# Altium schematic symbol library IC Regulators.SchLib: 50 symbols
Pins are listed as number, name and electrical type; pins without a type are passive.

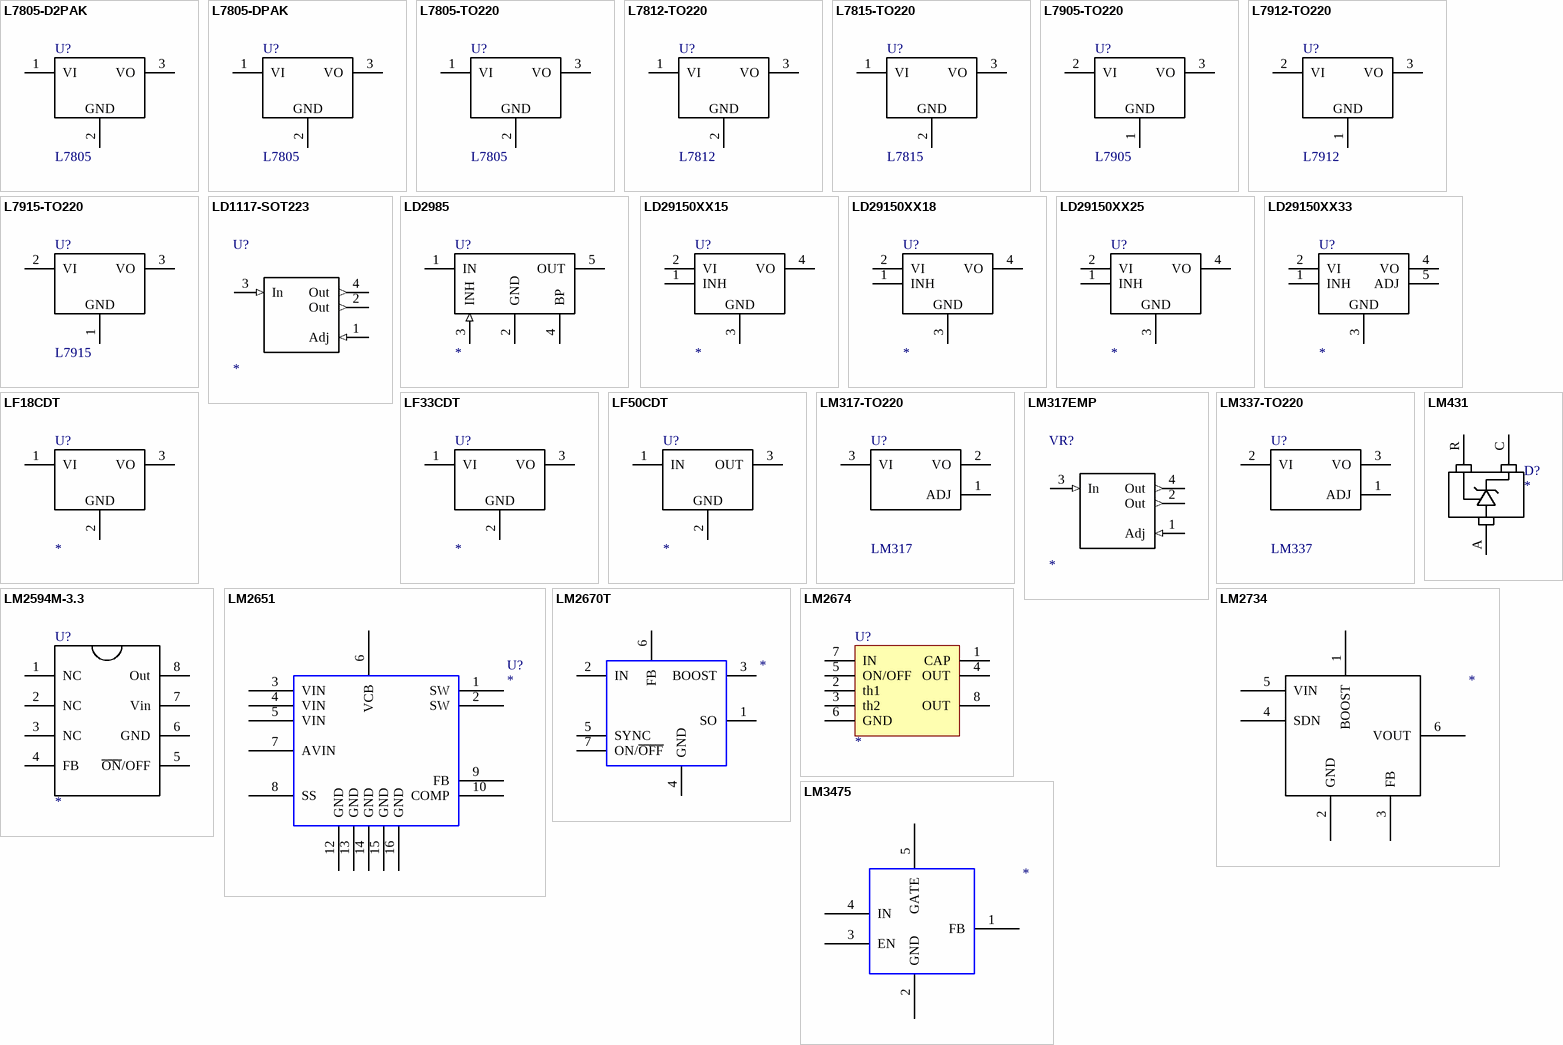
[diagram p0: symbols L7805-D2PAK to LM3475]

## L7805-D2PAK
designator U?, comment L7805
LINEAR REGULATOR 5.0V; Supplier 1: Digi-Key; Supplier Part Number 1: 497-1170-6-ND
footprint D2PAK
pins: 1 VI, 2, 3 VO
text: GND

## L7805-DPAK
designator U?, comment L7805
LINEAR REGULATOR 5.0V; Supplier 1: Digi-Key; Supplier Part Number 1: 497-7255-6-ND
footprint DPAK
pins: 1 VI, 2, 3 VO
text: GND

## L7805-TO220
designator U?, comment L7805
LINEAR REGULATOR 5.0V; Supplier 1: Mouser; Supplier Part Number 1: 511-L7805ACP
footprint to220-123-v (TO220 123 pin numbering Vertical mount)
pins: 1 VI, 2, 3 VO
text: GND

## L7812-TO220
designator U?, comment L7812
LINEAR REGULATOR 12.0V; Supplier 1: Mouser; Supplier 2: Mouser; Supplier Part Number 2: 511-L7812ABV
footprint to220-123-v (TO220 123 pin numbering Vertical mount)
pins: 1 VI, 2, 3 VO
text: GND

## L7815-TO220
designator U?, comment L7815
Low Drop Voltage Regulator 5.0V; Supplier 1: Mouser; Supplier Part Number 1: 511-L7815ABV
footprint to220-123-v (TO220 123 pin numbering Vertical mount)
pins: 1 VI, 2, 3 VO
text: GND

## L7905-TO220
designator U?, comment L7905
LINEAR REGULATOR -5.0V; Supplier 1: Mouser; Supplier Part Number 1: 511-L7905ACV
footprint to220-123-v (TO220 123 pin numbering Vertical mount)
pins: 1, 2 VI, 3 VO
text: GND

## L7912-TO220
designator U?, comment L7912
LINEAR REGULATOR -12.0V; Supplier 1: Mouser; Supplier Part Number 1: 511-L7912ACV
footprint to220-123-v (TO220 123 pin numbering Vertical mount)
pins: 1, 2 VI, 3 VO
text: GND

## L7915-TO220
designator U?, comment L7915
LINEAR REGULATOR -15.0V; Supplier 1: Mouser; Supplier Part Number 1: 511-L7915ACV
footprint to220-123-v (TO220 123 pin numbering Vertical mount)
pins: 1, 2 VI, 3 VO
text: GND

## LD1117-SOT223
designator U?
footprint SOT223
pins: 1 Adj (in), 2 Out (out), 3 In (in), 4 Out (out)

## LD2985
designator U?
Low Noise Low Drop Voltage Regulator  with Inhibit; Text Field1: ST; Text Field2: LK112SM33TR; Text Field3: ST; Text Field4: LK112SM33TR
footprint SOT23-5
pins: 1 IN (power), 2 GND (power), 3 INH (in), 4 BP (power), 5 OUT (power)

## LD29150XX15
designator U?
Low Drop Voltage Regulator 5.0V; Text Field1: ST; Text Field2: LF33CDT; Text Field3: Mouser; Text Field4: 511-LF33CDT; Text Field5: DPAK; Text Field6: 0.57; NI?: *; O?: *; Section:: *
footprint PPAK
pins: 1 INH, 2 VI, 3, 4 VO
text: GND

## LD29150XX18
designator U?
Low Drop Voltage Regulator 5.0V; Text Field1: ST; Text Field2: LF33CDT; Text Field3: Mouser; Text Field4: 511-LF33CDT; Text Field5: DPAK; Text Field6: 0.57; NI?: *; O?: *; Section:: *
footprint PPAK
pins: 1 INH, 2 VI, 3, 4 VO
text: GND

## LD29150XX25
designator U?
Low Drop Voltage Regulator 5.0V; Text Field1: ST; Text Field2: LF33CDT; Text Field3: Mouser; Text Field4: 511-LF33CDT; Text Field5: DPAK; Text Field6: 0.57; NI?: *; O?: *; Section:: *
footprint PPAK
pins: 1 INH, 2 VI, 3, 4 VO
text: GND

## LD29150XX33
designator U?
Low Drop Voltage Regulator 5.0V; Text Field1: ST; Text Field2: LF33CDT; Text Field3: Mouser; Text Field4: 511-LF33CDT; Text Field5: DPAK; Text Field6: 0.57; NI?: *; O?: *; Section:: *
footprint PPAK
pins: 1 INH, 2 VI, 3, 4 VO, 5 ADJ
text: GND

## LF18CDT
designator U?
Low Drop Voltage Regulator 1.8V; Text Field1: ST; Text Field2: LF33CDT; Text Field3: Mouser; Text Field4: 511-LF33CDT; Text Field5: DPAK; Text Field6: 0.57; NI?: *; O?: *; Section:: *
footprint DPAK
pins: 1 VI, 2, 3 VO
text: GND

## LF33CDT
designator U?
Low Drop Voltage Regulator 3.3V; Text Field1: ST; Text Field2: LF33CDT; Text Field3: Mouser; Text Field4: 511-LF33CDT; Text Field5: DPAK; Text Field6: 0.57; NI?: *; O?: *; Section:: *
footprint DPAK
pins: 1 VI, 2, 3 VO
text: GND

## LF50CDT
designator U?
Low Drop Voltage Regulator 5.0V; Text Field1: ST; Text Field2: LF33CDT; Text Field3: Mouser; Text Field4: 511-LF33CDT; Text Field5: DPAK; Text Field6: 0.57; NI?: *; O?: *; Section:: *
footprint DPAK
pins: 1 IN, 2, 3 OUT
text: GND

## LM317-TO220
designator U?, comment LM317
LINEAR REGULATOR ADJ POSITIVE; Supplier 1: Mouser; Supplier Part Number 1: 511-LM317MT
footprint to220-123-v (TO220 123 pin numbering Vertical mount)
pins: 1 ADJ, 2 VO, 3 VI

## LM317EMP
designator VR?
footprint SOT223
pins: 1 Adj (in), 2 Out (out), 3 In (in), 4 Out (out)

## LM337-TO220
designator U?, comment LM337
Low Drop Voltage Regulator 5.0V; Supplier 1: Digi-Key; Supplier Part Number 1: 497-1585-5-ND
footprint to220-123-v (TO220 123 pin numbering Vertical mount)
pins: 1 ADJ, 2 VI, 3 VO

## LM431
designator D?
pins: A, C, R

## LM2594M-3.3
designator U?
footprint SO8
pins: 1 NC, 2 NC, 3 NC, 4 FB, 5 ~{ON}/OFF, 6 GND, 7 Vin, 8 Out

## LM2651
designator U?
SYNCHRONOUS STEP DOWN REGULATOR
footprint TSSOP16
pins: 1 SW, 2 SW, 3 VIN, 4 VIN, 5 VIN, 6 VCB, 7 AVIN, 8 SS, 9 FB, 10 COMP, 12 GND, 13 GND, 14 GND, 15 GND, 16 GND

## LM2670T
designator ?
pins: 1 SO, 2 IN, 3 BOOST, 4 GND, 5 SYNC, 6 FB, 7 ON/~{OFF}

## LM2674
designator U?
footprint DIP8
pins: 1 CAP, 2 th1, 3 th2, 4 OUT, 5 ON/OFF, 6 GND, 7 IN, 8 OUT

## LM2734
designator ?
pins: 1 BOOST, 2 GND, 3 FB, 4 SDN, 5 VIN, 6 VOUT

## LM3475
designator ?
pins: 1 FB, 2 GND, 3 EN, 4 IN, 5 GATE

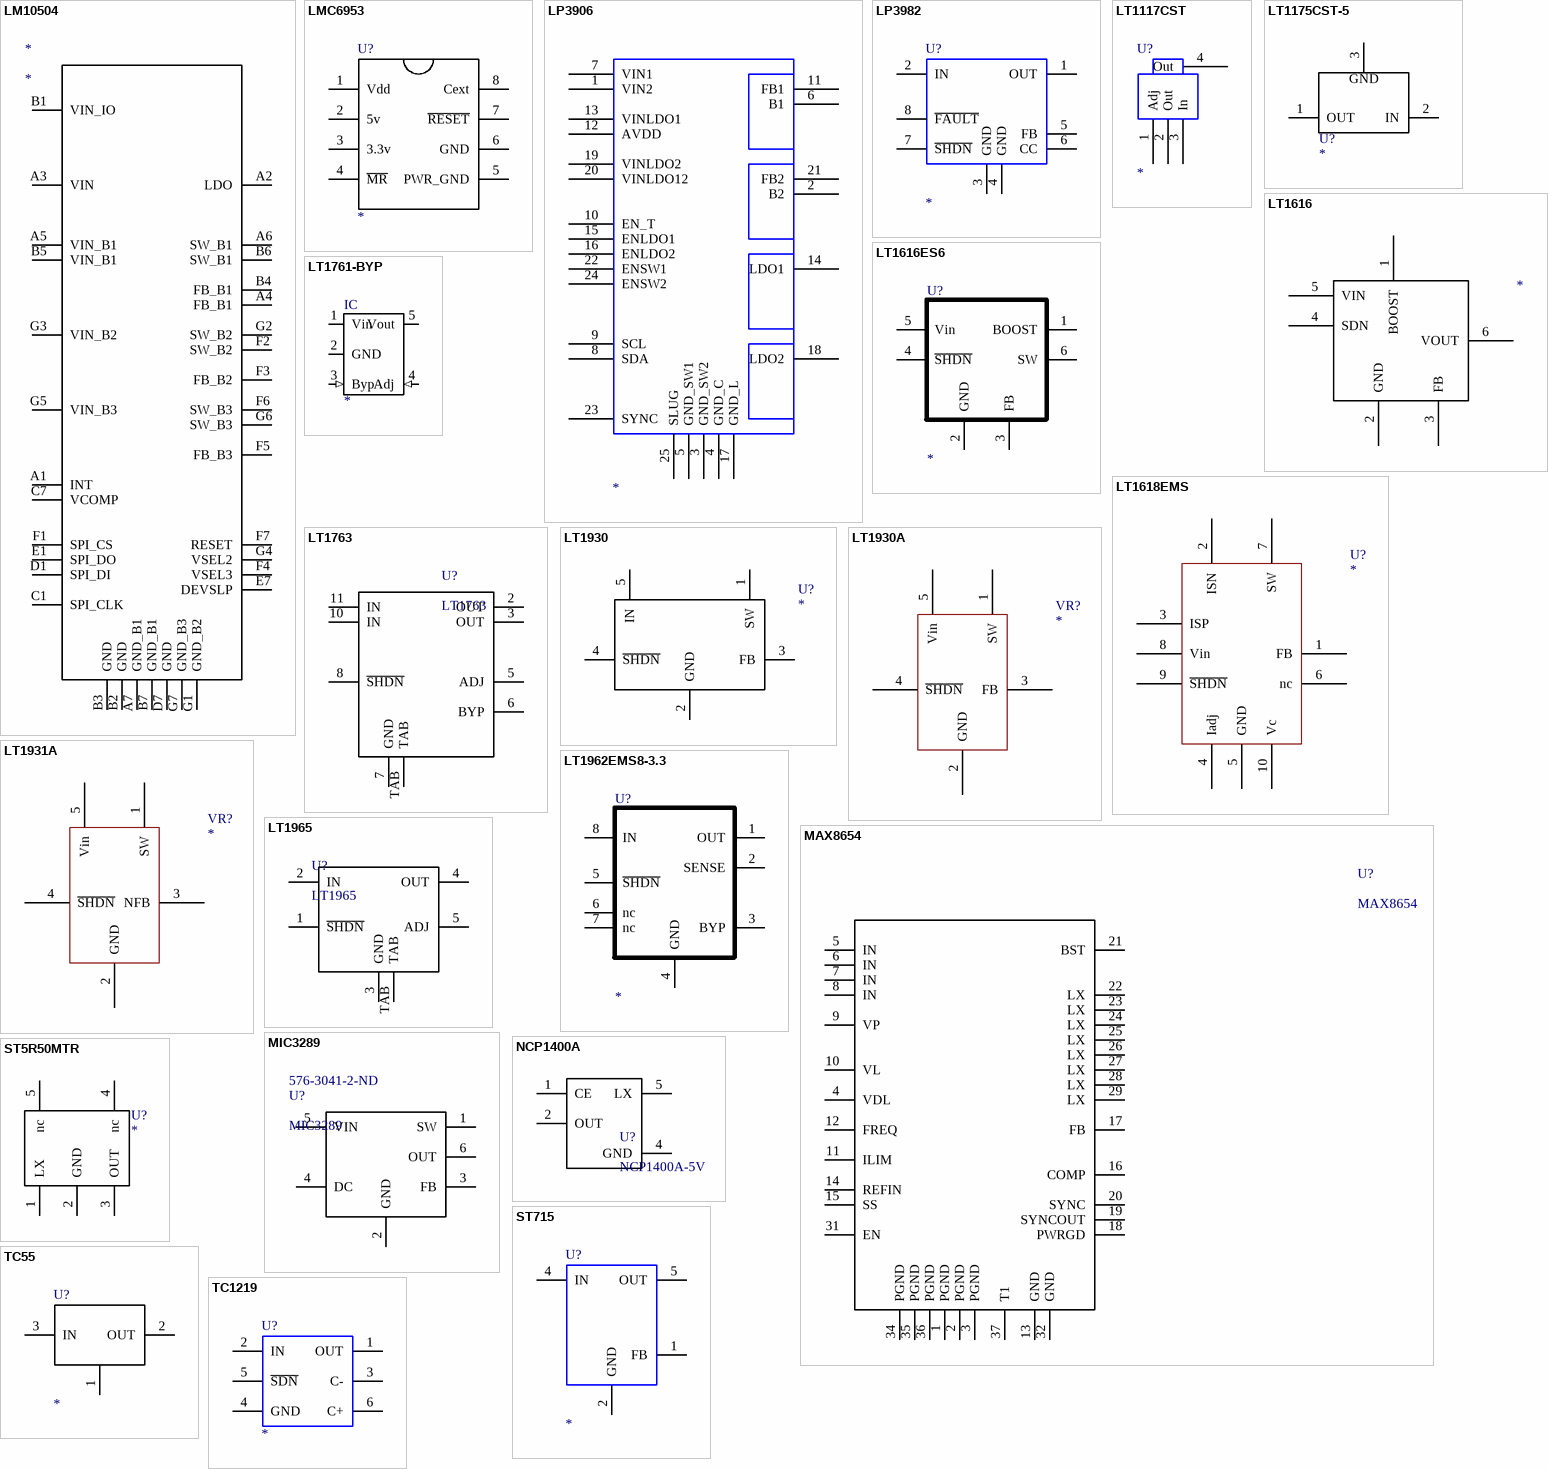
[diagram p1: symbols LM10504 to TC1219]

## LM10504
designator *
Supplier 1: Digi-Key; Supplier Part Number 1: LM10504TME/NOPBTR-ND
footprint LM10504
pins: A1 INT, A2 LDO, A3 VIN, A4 FB_B1, A5 VIN_B1, A6 SW_B1, A7 GND_B1, B1 VIN_IO, B2 GND, B3 GND, B4 FB_B1, B5 VIN_B1, B6 SW_B1, B7 GND_B1, C1 SPI_CLK, C7 VCOMP, D1 SPI_DI, D7 GND, E1 SPI_DO, E7 DEVSLP, F1 SPI_CS, F2 SW_B2, F3 FB_B2, F4 VSEL3, F5 FB_B3, F6 SW_B3, F7 RESET, G1 GND_B2, G2 SW_B2, G3 VIN_B2, G4 VSEL2, G5 VIN_B3, G6 SW_B3, G7 GND_B3

## LMC6953
designator U?
pins: 1 Vdd, 2 5v, 3 3.3v, 4 ~{MR}, 5 PWR_GND, 6 GND, 7 ~{RESET}, 8 Cext

## LP3906
designator ?
pins: 1 VIN2, 2 B2, 3 GND_SW2, 4 GND_C, 5 GND_SW1, 6 B1, 7 VIN1, 8 SDA, 9 SCL, 10 EN_T, 11 FB1, 12 AVDD, 13 VINLDO1, 14 LDO1, 15 ENLDO1, 16 ENLDO2, 17 GND_L, 18 LDO2, 19 VINLDO2, 20 VINLDO12, 21 FB2, 22 ENSW1, 23 SYNC, 24 ENSW2, 25 SLUG

## LP3982
designator U?
LOW POWER LDO MSOP8
footprint MSOP8
pins: 1 OUT, 2 IN, 3 GND, 4 GND, 5 FB, 6 CC, 7 ~{SHDN}, 8 ~{FAULT}

## LT1117CST
designator U?
pins: 1 Adj, 2 Out, 3 In, 4 Out

## LT1175CST-5
designator U?
Low Drop Voltage Regulator 5.0V; Text Field1: ST; Text Field2: LF33CDT; Text Field3: Mouser; Text Field4: 511-LF33CDT; Text Field5: DPAK; Text Field6: 0.57; NI?: *; O?: *; Section:: *
footprint DPAK
pins: 1 OUT, 2 IN, 3
text: GND

## LT1616
designator ?
pins: 1 BOOST, 2 GND, 3 FB, 4 SDN, 5 VIN, 6 VOUT

## LT1616ES6
designator U?
footprint SOT23-6
pins: 1 BOOST, 2 GND, 3 FB, 4 ~{SHDN}, 5 Vin, 6 SW

## LT1618EMS
designator U?
footprint MSOP10
pins: 1 FB, 2 ISN, 3 ISP, 4 Iadj, 5 GND, 6 nc, 7 SW, 8 Vin, 9 ~{SHDN}, 10 Vc

## LT1761-BYP
designator IC
Adjustable, 100mA, low-noise, LDO regulator
footprint SOT23-5
pins: 1 Vin (power), 2 GND (power), 3 Byp (in), 4 Adj (in), 5 Vout (power)

## LT1763
designator U?
pins: 2 OUT, 3 OUT, 5 ADJ, 6 BYP, 7 GND, 8 ~{SHDN}, 10 IN, 11 IN, TAB

## LT1930
designator U?
LT1930 STEP UP SWITCHING CONVERTOR
footprint SOT23-5
pins: 1 SW, 2 GND, 3 FB, 4 ~{SHDN}, 5 IN

## LT1930A
designator VR?
footprint SOT23-5
pins: 1 SW, 2 GND, 3 FB, 4 ~{SHDN}, 5 Vin

## LT1931A
designator VR?
footprint SOT23-5
pins: 1 SW, 2 GND, 3 NFB, 4 ~{SHDN}, 5 Vin

## LT1962EMS8-3.3
designator U?
footprint MSOP8
pins: 1 OUT, 2 SENSE, 3 BYP, 4 GND, 5 ~{SHDN}, 6 nc, 7 nc, 8 IN

## LT1965
designator U?
footprint TO263-5
pins: 1 ~{SHDN}, 2 IN, 3 GND, 4 OUT, 5 ADJ, TAB

## MAX8654
designator U?
Supplier 1: Digi-Key; Supplier Part Number 1: MAX8654ETX+T-ND
footprint QFN36EP (Footprint not found)
pins: 1 PGND, 2 PGND, 3 PGND, 4 VDL, 5 IN, 6 IN, 7 IN, 8 IN, 9 VP, 10 VL, 11 ILIM, 12 FREQ, 13 GND, 14 REFIN, 15 SS, 16 COMP, 17 FB, 18 PWRGD, 19 SYNCOUT, 20 SYNC, 21 BST, 22 LX, 23 LX, 24 LX, 25 LX, 26 LX, 27 LX, 28 LX, 29 LX, 31 EN, 32 GND, 34 PGND, 35 PGND, 36 PGND, 37 T1

## MIC3289
designator U?  Supplier Part Number 1: 576-3041-2-ND
Supplier 1: Digi-Key
footprint SOT23-6
pins: 1 SW, 2 GND, 3 FB, 4 DC, 5 VIN, 6 OUT

## NCP1400A
designator U?, comment NCP1400A-5V
Supplier 1: Digi-Key; Supplier Part Number 1: NCP1400ASN50TOSTR-ND
footprint SOT23-5
pins: 1 CE, 2 OUT, 4 GND, 5 LX

## ST5R50MTR
designator U?
footprint SOT23-5
pins: 1 LX, 2 GND, 3 OUT, 4 nc, 5 nc

## ST715
designator U?
MICROPOWER VOLTAGE REGULATOR; Manufacturer Part Number: ST715MR; Manufacturer: STMicroelectronics; Description: IC REG LDO 85MA ADJ SOT23-5; Reel: U1; Supplier 1: Digi-Key; Supplier Part Number 1: 497-6832-2-ND
footprint SOT23-5
pins: 1 FB, 2 GND, 4 IN, 5 OUT

## TC55
designator U?
TC55 VOLTAGE  REGULATOR
footprint SOT23-123
pins: 1 GND, 2 OUT, 3 IN

## TC1219
designator U?
SWITCH CAP VOLTAGE INVERTER; Manufacturer Part Number: TC1219ECHTR; Manufacturer: Microchip Technology; Description: IC CHARGE PUMP CONV SD SOT23A-6; Supplier 1: Digi-Key; Supplier Part Number 1: TC1219ECHTR-ND
footprint SOT23-6
pins: 1 OUT, 2 IN, 3 C-, 4 GND, 5 ~{SDN}, 6 C+